# Altium footprint library 1776275-2.PcbLib: 1 footprints
Each footprint in its own frame and in the unit in brackets; x right, y up, seen from the top. Pads: shape width x height; smd on the part's side, far side on the other; paste and mask are expansions set on the pad; w line width, h text height; cw(c..) or ccw(c..) is an arc to the next point about the centre after c.
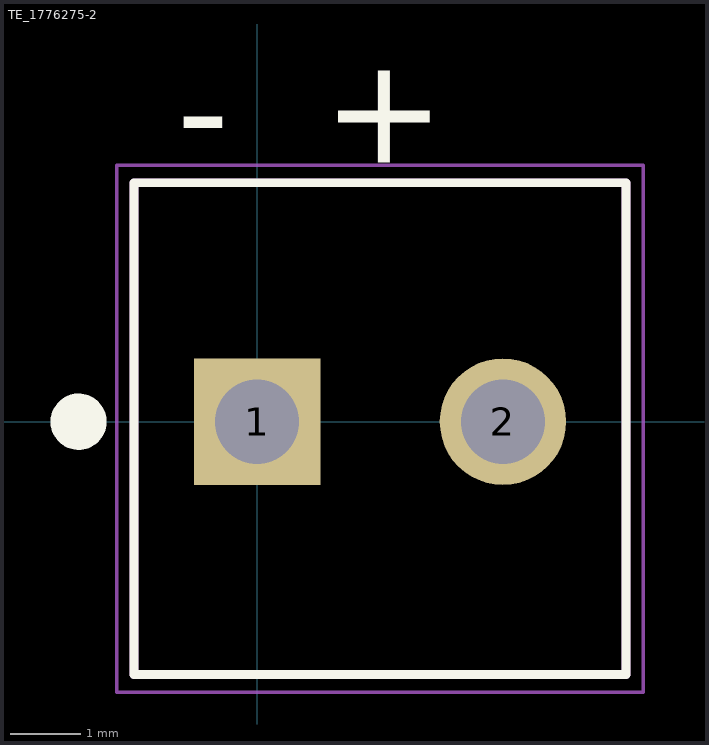
[diagram p0: the footprint, top view; thin cyan lines are the x and y axes]

## TE_1776275-2 [mm]
pads (2):
  rect 1.8x1.8 hole 1.2: 1(0,0)
  round 1.8 hole 1.2: 2(3.5,0)
Top Overlay:
  circle w0.4: c-2.54,0 r0.2
  lines w0.127: -1.75,-3.6 5.25,-3.6 5.25,3.4 -1.75,3.4 -1.75,-3.6
  text "-  +" at -1.143,3.683 h1.52
Mechanical 13:
  circle w0.4: c0,0 r0.2
  lines w0.127: -1.75,-3.6 5.25,-3.6 5.25,3.4 -1.75,3.4 -1.75,-3.6
Mechanical 15:
  lines w0.05: -2,-3.85 5.5,-3.85 5.5,3.65 -2,3.65 -2,-3.85
3D body "step_temp.STEP": height 8.5, standoff -4, extent -2.285,-3.388 5.715,3.612